# Altium schematic symbol library MB1849_V2.SCHLIB: 34 symbols
Pins are listed as number, name and electrical type; pins without a type are passive.

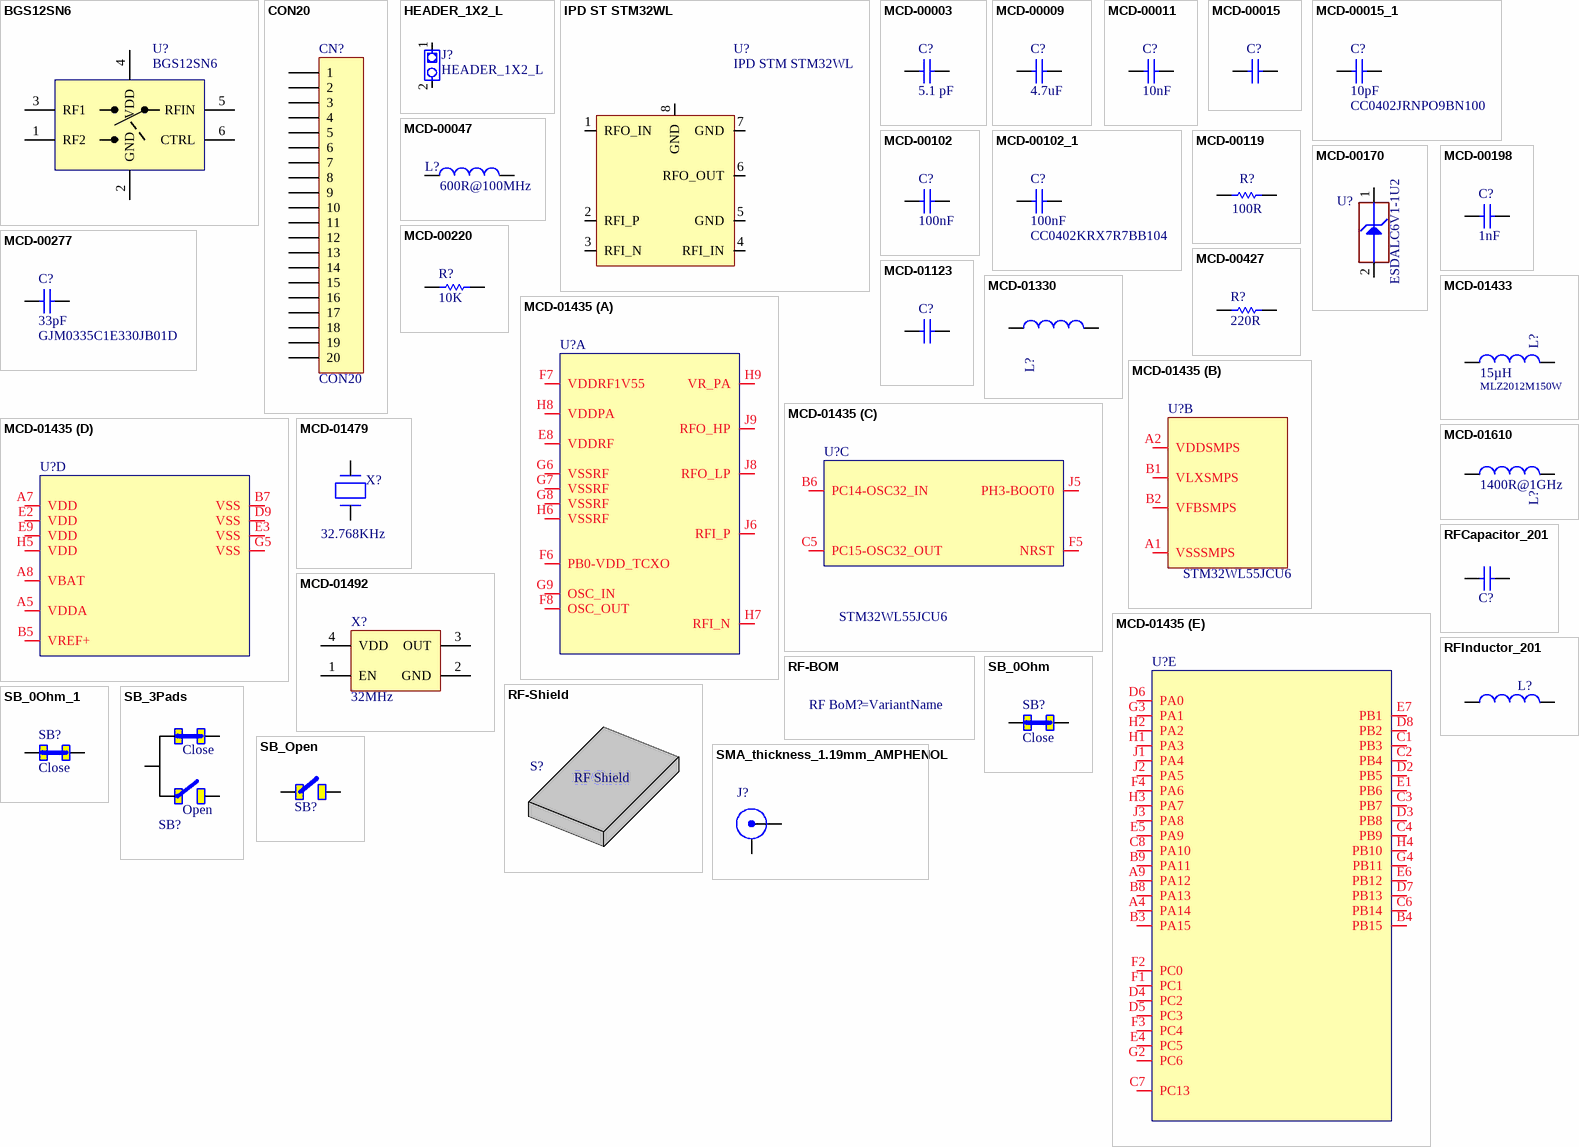
[diagram p0: symbols BGS12SN6 to SMA_thickness_1.19mm_AMPHENOL]

## BGS12SN6
designator U?
DC switch - Ultra-Low  SPDT analog switch; Manufacturer: INFINEON; Manufacturer_Part_Number: BGS12SN6
footprint TSNP-6-2 (TSNP-6-2; Body 1.1 x 0.7 mm (LxW typ))
pins: 1 RF2, 2 GND, 3 RF1, 4 VDD, 5 RFIN, 6 CTRL

## CON20
designator CN?
Connector right-angle, pitch 2.54mm, 20 contacts; Manufacturer: SAMTEC; Manufacturer_Part_Number: TSW-120-07-L-S
footprint CO_SAMTEC_TSW-120-07-x-S (Header, 20-Leads, 50.80x2.54x10.80mm, Pitch 2.54mm)
pins: 1, 2, 3, 4, 5, 6, 7, 8, 9, 10, 11, 12, 13, 14, 15, 16, 17, 18, 19, 20

## HEADER_1X2_L
designator J?
Header 1x2 Through hole 2.54mm; Manufacturer: MOLEX; Manufacturer_Part_Number: 22-03-2021
footprint CO_MOLEX_22-03-2021
footprint Header M 1x2x2.54 TH V (1x2x2.54 Header TH V Male)
footprint Header F 1x2x2.00 TH V (1x2x2.00 Header TH V Male height=5.5mm)
footprint Header F 1x2x2.00 TH V with Jumper (1x2x2.00 Header TH V Male height=5.5mm)
footprint Header NF 1x2x2.54 TH (1x2x2.54 Header TH Not Fitted)
pins: 1, 2

## IPD ST STM32WL
designator U?, comment IPD STM STM32WL
Manufacturer: STMICROELECTRONICS; Manufacturer_Part_Number: IPD STM STM32WL
footprint IPD STM (IPD STM STM32WL, Body 2.20 x 1.90 x 0.710 mm (LxWxH max))
pins: 1 RFO_IN (in), 2 RFI_P (out), 3 RFI_N (out), 4 RFI_IN (in), 5 GND (power), 6 RFO_OUT (out), 7 GND (power), 8 GND (power)

## MCD-00003
designator C?, comment value 5.1 pF  (hidden comment: Capacitor)
Capacitor, MLCC, 5.1 pF, 50V, NPO, +-0.1pF, 0402, T=0.5mm; Manufacturer_Part_Number: CC0402CRNPO9BN5R1; Manufacturer: YAGEO
footprint CAPC1005X06N (Chip Capacitor, 2-Leads, Body 1.00x0.50x0.60mm (0402))
pins: 1, 2

## MCD-00009
designator C?  value 4.7uF
Capacitor, MLCC, 4.7uF, 16V, X5R, 10%, 0603, T=0.8mm; Manufacturer_Part_Number: CC0603KRX5R7BB475; Manufacturer: YAGEO; Package: C0603
footprint CAPC1608X09N (Chip Capacitor, 2-Leads, Body 1.60x0.80x0.90mm (0603))
pins: 1, 2

## MCD-00011
designator C?  value 10nF
Capacitor, MLCC, 10nF, 16V, X7R, 10%, 0402, T=0.5mm; Internal_Part_Number: MCD-00011; Manufacturer_Part_Number: CC0402KRX7R7BB103; Manufacturer: YAGEO; Provided_By: SUBCO; ECCN_US: EAR99; ECCN_EU: NEC; Status: Released; Part_Type: Capacitor; Package: C0402; ComponentLink1Description: Datasheet; ComponentLink1URL: http://tunmcdsvn.tun.st.com/Component_Datasheet_Library/Trunk/Capacitors/Yageo_Multilayer_Capacitor_X7R_series_100pF_to_22uF
footprint C0402
pins: 1, 2

## MCD-00015
designator C?
RF Capacitor
footprint CAPC1005X06N (Chip Capacitor, 2-Leads, Body 1.00x0.50x0.60mm (0402))
footprint Capacitor__0402__RF (Inductor 2-Leads,Body 1.10x0.70x0.60mm(max))
pins: 1, 2

## MCD-00015_1
designator C?, comment value 10pF  Manufacturer_Part_Number: CC0402JRNPO9BN100  (hidden comment: Capacitor)
Capacitor, MLCC, 10pF, 50V, NPO, +/-5%, 0402, T=0,5mm; Internal_Part_Number: MCD-00015; Part_Preference: Recommended; Manufacturer: YAGEO; Status: Released; Part_Type: Capacitor; Package: C0402; ComponentLink1Description: Datasheet; ComponentLink1URL: http://tunmcdsvn.tun.st.com/Component_Datasheet_Library/Trunk/Capacitors/Yageo_Capacitor_NP0_16V-to-50V
footprint C0402
pins: 1, 2

## MCD-00047
designator L?  value 600R@100MHz
SMD Chip ferrite bead, 600R@100MHz +/-25%, 350mA, 500mohm DC, 0603, T=0.8mm; Manufacturer_Part_Number: FCM1608KF-601T03; Manufacturer: TAI-TECH
footprint INDC1608X95N (Chip Inductor, 2-Leads, Body 1.75x0.95x0.95mm (0603))
pins: 1, 2

## MCD-00102
designator C?  value 100nF
Capacitor, MLCC, 100nF, 16V, X7R, 10%, 0402, T=0,5mm; Manufacturer_Part_Number: CC0402KRX7R7BB104; Manufacturer: YAGEO; Package: C0402
footprint CAPC1005X06N (Chip Capacitor, 2-Leads, Body 1.00x0.50x0.60mm (0402))
footprint 0201
pins: 1, 2

## MCD-00102_1
designator C?  value 100nF  Manufacturer_Part_Number: CC0402KRX7R7BB104
Capacitor, MLCC, 100nF, 16V, X7R, 10%, 0402, T=0,5mm; Manufacturer: YAGEO; Package: C0402
footprint CAPC1005X06N
footprint 0201
pins: 1, 2

## MCD-00119
designator R?  value 100R
Resistor,100R,0402,1%,1/16W; Manufacturer_Part_Number: RC0402FR-07100RL; Manufacturer: YAGEO
footprint RESC1005X04N (Chip Resistor, 2-Leads, Body 1.00x0.50mm (0402))
footprint 0201
pins: 1, 2

## MCD-00170
designator U?  Manufacturer_Part_Number: ESDALC6V1-1U2
ESD protection 6V1; Manufacturer: STMICROELECTRONICS
footprint DIOM0603X03N (Footprint not found)
pins: 1 IO1, 2 GND

## MCD-00198
designator C?  value 1nF
Capacitor, MLCC, 1nF, 16V, X7R, 10%, 0402, T=0.5mm; Manufacturer_Part_Number: CC0402KRX7R7BB102; Manufacturer: YAGEO
footprint CAPC1005X06N (Chip Capacitor, 2-Leads, Body 1.00x0.50x0.60mm (0402))
footprint 0201
pins: 1, 2

## MCD-00220
designator R?  value 10K
Resistor,10K,0603,1%,1/10W; Manufacturer_Part_Number: RC0603FR-0710KL; Manufacturer: YAGEO
footprint RESC1608X05N (Chip Resistor, 2-Leads, Body 1.60x0.80mm (0603))
pins: 1, 2

## MCD-00277
designator C?  value 33pF  Manufacturer_Part_Number: GJM0335C1E330JB01D
Multilayer Ceramic Capacitors MLCC - SMD/SMT 0201 33pF 25volts C0G 5%; Manufacturer: MURATA
footprint 0402
footprint 0201
pins: 1, 2

## MCD-00427
designator R?, comment value 220R  (hidden comment: Resistor)
Resistor,220R,0402,1%,1/16W; Internal_Part_Number: MCD-00427; Manufacturer_Part_Number: RC0402FR-07220RL; Manufacturer: YAGEO; ECCN_US: EAR99; ECCN_EU: NEC; Provided_By: SUBCO; Status: Released; Part_Type: Resistor; Package: R0402; ComponentLink1Description: Datasheet; ComponentLink1URL: http://tunmcdsvn.tun.st.com/Component_Datasheet_Library/Trunk/Resistors/Yageo_Resistor_RC0402-series
footprint R0402
pins: 1, 2

## MCD-01123
designator C?
RF Capacitor
footprint C0402
footprint CAPC1005X06N (Chip Capacitor, 2-Leads, Body 1.00x0.50x0.60mm (0402))
footprint Capacitor__0402__RF (Inductor 2-Leads,Body 1.10x0.70x0.60mm(max))
pins: 1, 2

## MCD-01330
designator L?
footprint Inductor__0402__RF (Inductor 2-Leads,Body 1.10x0.70x0.60mm(max))
pins: 1, 2

## MCD-01433
designator L?  value 15µH  Manufacturer_Part_Number: MLZ2012M150W
MLZ2012 Multilayer Shielded Inductor 15µH, ±5%; Manufacturer: TDK
footprint INDC2012X13N (Chip Inductor, 2-Leads, Body 2.0x1.2x1.3 (0805))
pins: 1, 2

## MCD-01435
designator U?  Manufacturer_Part_Number: STM32WL55JCU6
Multiprotocol Wireless 32-bit MCUwith LPWAN Sub-GHz radio solution; Manufacturer: STMICROELECTRONICS
footprint BGA73C50P9X9_500X500X60 (BGA, 73-Leads, Body 5.00x5.00mmx0.60mm, Pitch 0.50mm)
part A pins: E8 VDDRF, F6 PB0-VDD_TCXO, F7 VDDRF1V55, F8 OSC_OUT, G6 VSSRF, G7 VSSRF, G8 VSSRF, G9 OSC_IN, H6 VSSRF, H7 RFI_N, H8 VDDPA, H9 VR_PA, J6 RFI_P, J8 RFO_LP, J9 RFO_HP
part B pins: A1 VSSSMPS, A2 VDDSMPS, B1 VLXSMPS, B2 VFBSMPS
part C pins: B6 PC14-OSC32_IN, C5 PC15-OSC32_OUT, F5 NRST, J5 PH3-BOOT0
part D pins: A5 VDDA, A7 VDD, A8 VBAT, B5 VREF+, B7 VSS, D9 VSS, E2 VDD, E3 VSS, E9 VDD, G5 VSS, H5 VDD
part E pins: A4 PA14, A9 PA12, B3 PA15, B4 PB15, B8 PA13, B9 PA11, C1 PB3, C2 PB4, C3 PB7, C4 PB9, C6 PB14, C7 PC13, C8 PA10, D2 PB5, D3 PB8, D4 PC2, D5 PC3, D6 PA0, D7 PB13, D8 PB2, E1 PB6, E4 PC5, E5 PA9, E6 PB12, E7 PB1, F1 PC1, F2 PC0, F3 PC4, F4 PA6, G2 PC6, G3 PA1, G4 PB11, H1 PA3, H2 PA2, H3 PA7, H4 PB10, J1 PA4, J2 PA5, J3 PA8

## MCD-01479
designator X?, comment value 32.768KHz  (hidden comment: XTAL_2_PINS)
Crystal 32.768kHz, 6pF, -+20PPM, R=80K, SMD; Manufacturer_Part_Number: NX2012SA 32.768KHz EXS00A-MU00527; Manufacturer: NDK
footprint OSC_NDK_NX2012SA (Crystal, 2-Leads, Body 2.05x1.20x0.55mm (Tol:-/+0.05))
pins: 1 X1, 2 X2

## MCD-01492
designator X?  value 32MHz
NT2016SA-32M-END4263A; Internal_Part_Number: MCD-01492; Part_Type: Crystal_Osc; Manufacturer: NDK; Provided_By: SUBCO; ECCN_US: EAR99; ECCN_EU: NEC; Status: Checked; Manufacturer_Part_Number: NT2016SA-32M-END4263A; Package: 2016 size; ComponentLink1Description: Datasheet; ComponentLink1URL: http://tunmcdsvn.tun.st.com/Component_Datasheet_Library/Trunk/Crystal_Osc/NDK_NT2016SA
footprint CRY_NDK_NT2016SB_4P
pins: 1 EN, 2 GND, 3 OUT, 4 VDD

## MCD-01610
designator L?  value 1400R@1GHz
ferrite bead, 1400ohms at 1GHz, 250mA, 1.1ohms DC max; Internal_Part_Number: MCD-01610; Part_Type: Inductor; Manufacturer_Part_Number: BLM15HG102SN1#; Manufacturer: MURATA; Provided_By: SUBCO; Status: Footprint available; Package: L0402; ComponentLink1Description: Datasheet; ComponentLink1URL: http://tunmcdsvn.tun.st.com/Component_Datasheet_Library/Trunk/Inductors/Murata_ferrite-bead_BLM15series; ECCN_US: n/a; ECCN_EU: n/a
footprint IND_0402_MURATA_BLM15H_H0P5
pins: 1, 2

## RF-BOM
designator RF BoM?  (value not drawn)  (mechanical)

## RF-Shield
designator S?  (value not drawn)
RF Shield Frame + Cover without apertures; Manufacturer: Masach Tech; Manufacturer_Part_Number: MS409-10
text: RF Shield

## RFCapacitor_201
designator C?  (value not drawn)
RF Capacitor High-Q, 0201; Value: NC
footprint 0201
footprint rlc_201_smd
pins: 1, 2

## RFInductor_201
designator L?, comment Ferrite  (value not drawn)
Thick Film Resistor ±5%, 1/20W; Manufacturer_Part_Number: CRCW02010000Z0ED; Manufacturer: Vishay/Dale; Part_Type: Inductor; Value: 0R; Status: Footprint available; Package: L0201; ComponentLink1Description: Datasheet
footprint 0201
footprint rlc_201_smd
pins: 1, 2

## SB_0Ohm
designator SB?, comment Close
Solder Bridge 0R [0402] (Populated with 0 Ohm); Manufacturer: Vishay / Dale; Manufacturer_Part_Number: RCS04020000Z0ED; Revision: July-2002: Re-released for DXP Platform.
footprint SB_0402 (Souder Bridge [0402])
footprint 0201
pins: 1, 2

## SB_0Ohm_1
designator SB?, comment Close
Solder Bridge 0R [0402] (Populated with 0 Ohm); Manufacturer: Vishay / Dale; Manufacturer_Part_Number: RCS04020000Z0ED; VALUE: 0; Revision: July-2002: Re-released for DXP Platform.
footprint SB_0402 (Souder Bridge [0402])
signal-integrity model Guessed Model (IC Model Details Guessed by Setup Helper)
pins: 1, 2

## SB_3Pads
designator SB?  (value not drawn)
Solder Bridge Open [0402] (Unpopulated); Manufacturer: NOT FITTED; Revision: July-2002: Re-released for DXP Platform.; Manufacturer_Part_Number: NOT FITTED
footprint SB3PADS_0201 (Solder Bridge 0 Ohm (0201))
pins: 1, 2, 3
text: Close; Open

## SB_Open
designator SB?, comment Open  (value not drawn)
Solder Bridge Open [0402] (Unpopulated); Manufacturer: NOT FITTED; Revision: July-2002: Re-released for DXP Platform.; Manufacturer_Part_Number: NOT FITTED
footprint SB_0402 (Souder Bridge [0402])
footprint 0201
pins: 1, 2

## SMA_thickness_1.19mm_AMPHENOL
designator J?, comment Amphenol_132430  (value not drawn)
RF Connector, SMA End Launch Jack for 0.047 inch PCB, 50 Ohm, Flat Tab Contact; Manufacturer_Part_Number: 132430; Manufacturer: AMPHENOL
footprint SMA_AMPHENOL_50ohms_Edge_PCB (RF Connector, SMA End Launch Jack for 0.047 inch (1.19 mm thickness) PCB, 50 Ohm, Flat Tab Contact)
pins: 1 X, 2 Y